# EAGLE library part 74LS197 (library dec-con)
Loadable decade counter
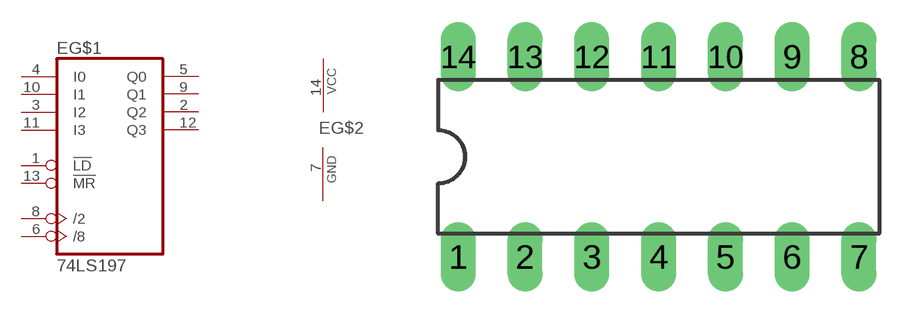
[diagram p52: symbol with the pads of DIL14; footprint DIL14]

Designator prefix E; gates G$2=PWRN G$1=74LS197

## 74LS197  [DIL14]
1  G$1:!LD  in
2  G$1:Q2  out
3  G$1:I2  in
4  G$1:I0  in
5  G$1:Q0  out
6  G$1:/8
7  G$2:GND  pwr
8  G$1:/2
9  G$1:Q1  out
10  G$1:I1  in
11  G$1:I3  in
12  G$1:Q3  out
13  G$1:!MR  in
14  G$2:VCC  pwr

## Footprint DIL14 (pad centres in mm)
Dual In Line Package
drill 0.813 long: 1 -7.62,-3.81; 2 -5.08,-3.81; 3 -2.54,-3.81; 4 0,-3.81; 5 2.54,-3.81; 6 5.08,-3.81; 7 7.62,-3.81; 8 7.62,3.81; 9 5.08,3.81; 10 2.54,3.81; 11 0,3.81; 12 -2.54,3.81; 13 -5.08,3.81; 14 -7.62,3.81